# EAGLE library part IRF7750 (library ssozonoff)
HEXFET® power MOSFETs from International Rectifier utilize advanced processing techniques to achieve extremely low on-resistance per silicon area. This benefit, combined with the ruggedized device design, that International Rectifier is well known for, provides the designer with an extremely efficient and reliable device for battery and load management.
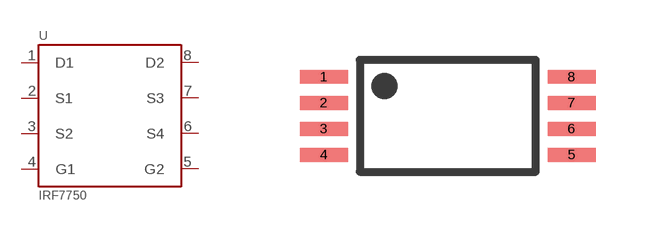
[diagram p1: symbol with the pads of TSSOP8-4.4MM; footprint TSSOP8-4.4MM]

Designator prefix -

## IRF7750  [TSSOP8-4.4MM]
1  D1
2  S1
3  S2
4  G1
5  G2  pwr
6  S4
7  S3
8  D2  pwr

## Footprint TSSOP8-4.4MM (pad centres in mm)
smd 1.2 x 0.35: 1 -3.1,0.975; 2 -3.1,0.325; 3 -3.1,-0.325; 4 -3.1,-0.975; 5 3.1,-0.975; 6 3.1,-0.325; 7 3.1,0.325; 8 3.1,0.975